# Altium schematic symbol library STMicroelectronics_LSM9DS0TR.SchLib: 1 symbol
Pins are listed as number, name and electrical type; pins without a type are passive.

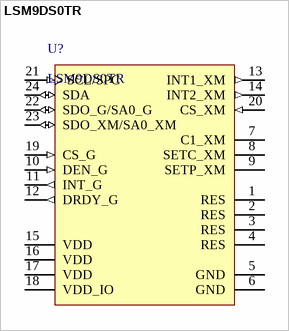
[diagram p0: symbol LSM9DS0TR]

## LSM9DS0TR
designator U?
INEMO Inertial Module: 3D Accelerometer, 3D Gyroscope, 3D Magnetometer, 2.4 to 3.6 V, -40 to 85 degC, 24-Pin LGA, RoHS, Tape and Reel; Manufacturer: STMicroelectronics; IDD_PDN: 6 uA Typ.; IDD_G_LP: 2 mA Typ.; VDDIO: 1.71 V Min.; IDD_XM: 350 uA Typ.; Bandwidth: 400 kHz; IDD_G: 6.1 mA Typ.; ComponentLink1Description: Manufacturer URL; ComponentLink2Description: Datasheet; DatasheetVersion: Rev. 2; Operating Temperature Range: -40 to 85 degC; ComponentLink3Description: Package Specification; ComponentLink1URL: http://www.st.com/; Packing: Tape and Reel; PartNumber: LSM9DS0TR; ComponentLink2URL: http://www.st.com/st-web-ui/static/active/en/resource/technical/document/datasheet/DM00087365.pdf; VDD: 2.4 to 3.6 V; RoHS: TRUE; Mounting Technology: Surface Mount; PackageDescription: 24-Pin Land Grid Array, Body 4 x 4 mm, Pitch 0.5 mm; ComponentLink3URL: http://www.st.com/st-web-ui/static/active/en/resource/technical/document/datasheet/DM00087365.pdf
footprint STM-LGA-24_V
pins: 1 RES "Leave unconnected", 2 RES "Connect to GND", 3 RES "Connect to GND", 4 RES "Connect to GND", 5 GND (power) "0 V supply", 6 GND (power) "0 V supply", 7 C1_XM "Capacitor connection (C1)", 8 SETC_XM "S/R capacitor connection (C2)", 9 SETP_XM "S/R capacitor connection (C2)", 10 DEN_G (in) "Gyroscope data enable", 11 INT_G (out) "Gyroscope programmable interrupt", 12 DRDY_G (out) "Gyroscope data ready", 13 INT1_XM (out) "Accelerometer and magnetic sensor interrupt 1", 14 INT2_XM (out) "Accelerometer and magnetic sensor interrupt 2", 15 VDD (power) "Power supply", 16 VDD (power) "Power supply", 17 VDD (power) "Power supply", 18 VDD_IO (power) "Power supply for I/O pins", 19 CS_G (in) "Gyroscope I2C/SPI mode selection, 1: SPI idle mode / I2C communication enabled, 0: SPI communication mode / I2C disabled", 20 CS_XM (in) "Accelerometer and magnetic sensor SPI enabled, I2C/SPI mode selection, 1: SPI idle mode / I2C communication enabled, 0: SPI communication mode / I2C disabled", 21 SCL/SPC (in), 22 SDO_G/SA0_G (io), 23 SDO_XM/SA0_XM (io), 24 SDA (io) "I2C serial data (SDA)"